# Altium schematic symbol library MMC5633NJL.Schlib: 1 symbol
Pins are listed as number, name and electrical type; pins without a type are passive.

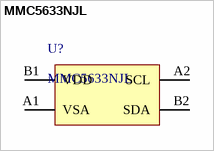
[diagram p0: symbol MMC5633NJL]

## MMC5633NJL
designator U?
Magnetoresistive Sensor X, Y, Z Axis 4-WLP (0.85x0.85)
pins: A1 VSA, A2 SCL, B1 VDD, B2 SDA